# Altium footprint library MPS20N0040D-S.PcbLib: 1 footprints
Each footprint in its own frame and in the unit in brackets; x right, y up, seen from the top. Pads: shape width x height; smd on the part's side, far side on the other; paste and mask are expansions set on the pad; w line width, h text height; cw(c..) or ccw(c..) is an arc to the next point about the centre after c.
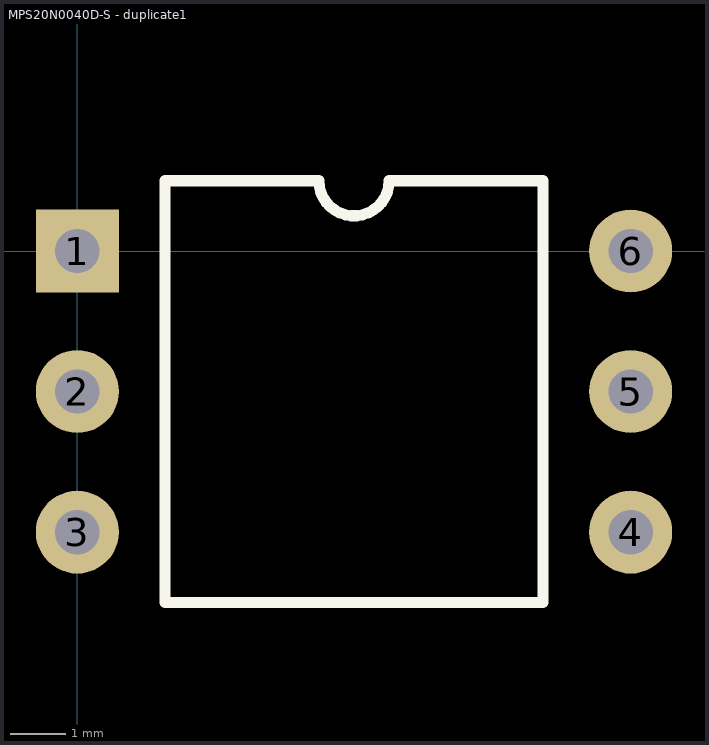
[diagram p0: the footprint, top view; thin cyan lines are the x and y axes]

## MPS20N0040D-S - duplicate1 [mm]
pads (6):
  rect 1.5x1.5 hole 0.8: 1(0,0)
  round 1.5 hole 0.8: 2(0,-2.54) 3(0,-5.08) 4(10,-5.08) 5(10,-2.54) 6(10,0)
Top Overlay:
  lines w0.2: 1.585,-6.35 1.585,1.27 4.365,1.27 ccw(c5,1.27) 5.635,1.27 8.415,1.27 8.415,-6.35 1.585,-6.35